# EAGLE library part LOGIC,COUNTER:74AC161/3(4-BIT) (library QuantumOptics)
Counter, 74AC(T)161/3, 4-bit, fast, CMOS (AC) or TTL (ACT), sync load (161) or async (163). http://www.fairchildsemi.com/ds/74/74AC161.pdf
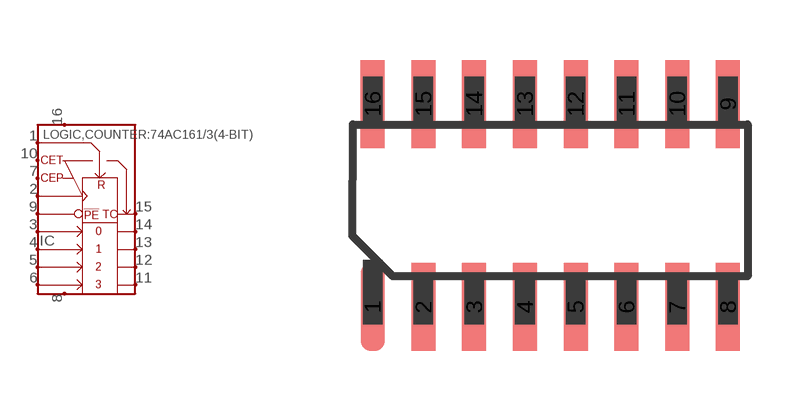
[diagram p116: symbol with the pads of SOIC-16; footprint SOIC-16]

Designator prefix IC

## LOGIC,COUNTER:74AC161/3(4-BIT)-SOIC16  [SOIC-16]
1  ~RST  in
2  CLK  in
3  P0  in
4  P1  in
5  P2  in
6  P3  in
7  CEP  in
8  COM
9  ~PE  in
10  CET  in
11  Q3  out
12  Q2  out
13  Q1  out
14  Q0  out
15  TC  out
16  VCC

## Footprint SOIC-16 (pad centres in mm)
SOIC-16, 0.05" pad spacing with 0.15" wide case.
smd 0.6 x 2.2: 1 -3.81,-2.54; 2 -2.54,-2.54; 3 -1.27,-2.54; 4 0,-2.54; 5 1.27,-2.54; 6 2.54,-2.54; 7 3.81,-2.54; 8 5.08,-2.54; 9 5.08,2.54; 10 3.81,2.54; 11 2.54,2.54; 12 1.27,2.54; 13 0,2.54; 14 -1.27,2.54; 15 -2.54,2.54; 16 -3.81,2.54